# Altium footprint library C0603.PcbLib: 2 footprints
Each footprint in its own frame and in the unit in brackets; x right, y up, seen from the top. Pads: shape width x height; smd on the part's side, far side on the other; paste and mask are expansions set on the pad; w line width, h text height; cw(c..) or ccw(c..) is an arc to the next point about the centre after c.
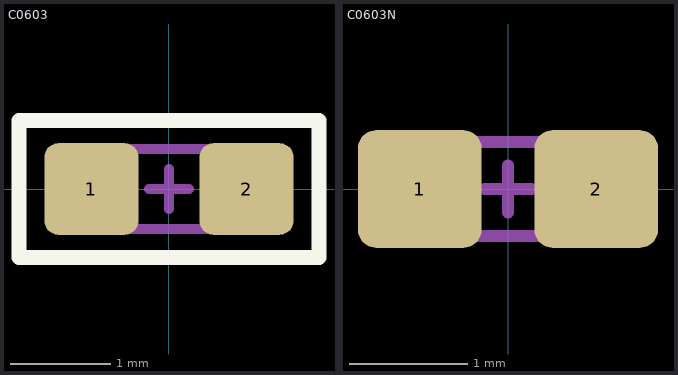
[diagram p0: the footprints below, top view; thin cyan lines are the x and y axes]

## C0603 [mil] "Generic C0603 Footprint"
pads (2):
  rrect30% 37x36 smd mask+4: 1(-30.5,0) 2(30.5,0)
Top Overlay:
  lines w5.91: -59,-27 -59,27 59,27 59,-27 -59,-27
Top Designator:
  text ".Designator" at -299.9,-19.99 h60
3D Body:
  lines w3.94: -31.5,-15.75 31.5,-15.75 31.5,15.75 -31.5,15.75 -31.5,-15.75
Center Cross:
  lines w3.94: -7.87,0 7.87,0 ; 0,-7.87 0,7.87
3D body "Ceramic_Capacitor_0603_h32mil.step": height 31.5, standoff 0, extent -31.89,-15.75 31.1,15.75

## C0603N [mm] "Larger C0603 Footprint"
pads (2):
  rrect30% 1.05x1 smd mask+0.102: 1(-0.75,0) 2(0.75,0)
Top Designator:
  text ".Designator" at -7.618,-0.508 h1.52
3D Body:
  lines w0.1: -0.8,-0.4 -0.8,0.4 0.8,0.4 0.8,-0.4 -0.8,-0.4
Center Cross:
  lines w0.1: -0.2,0 0.2,0 ; 0,-0.2 0,0.2
3D body "Ceramic_Capacitor_0603_h32mil.step": height 0.8, standoff 0, extent -0.81,-0.4 0.79,0.4